# Altium schematic symbol library TiltLib.SchLib: 3 symbols
Pins are listed as number, name and electrical type; pins without a type are passive.

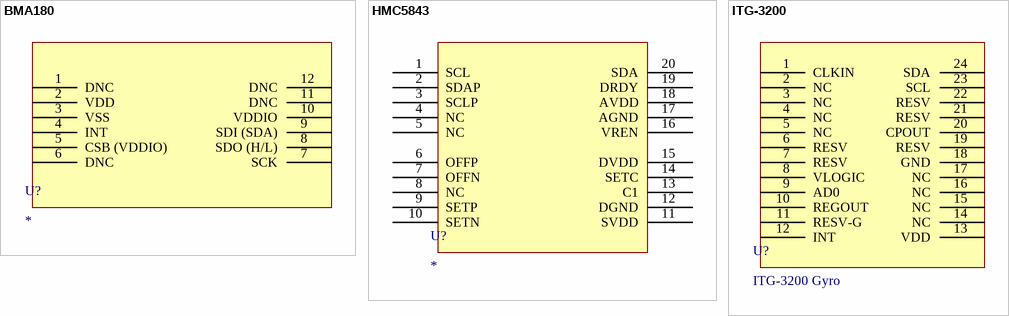
[diagram p0: symbols BMA180 to ITG-3200]

## BMA180
designator U?
footprint LGA - BMA180 (LCC, 12-Pins, Body 3.1x3.1mm (max), Pitch 0.50mm, IPC High Density)
pins: 1 DNC, 2 VDD, 3 VSS, 4 INT, 5 CSB (VDDIO), 6 DNC, 7 SCK, 8 SDO (H/L), 9 SDI (SDA), 10 VDDIO, 11 DNC, 12 DNC

## HMC5843
designator U?
footprint HMC5843 - LPCC 20 Pin
pins: 1 SCL, 2 SDAP, 3 SCLP, 4 NC, 5 NC, 6 OFFP, 7 OFFN, 8 NC, 9 SETP, 10 SETN, 11 SVDD, 12 DGND, 13 C1, 14 SETC, 15 DVDD, 16 VREN, 17 AGND, 18 AVDD, 19 DRDY, 20 SDA

## ITG-3200
designator U?, comment ITG-3200 Gyro
footprint ITG-3200 - QFN 24 Pin (QFN, 24-Leads, Body 4.1x4.1mm (max), Pitch 0.50mm, IPC Low Density)
pins: 1 CLKIN, 2 NC, 3 NC, 4 NC, 5 NC, 6 RESV, 7 RESV, 8 VLOGIC, 9 AD0, 10 REGOUT, 11 RESV-G, 12 INT, 13 VDD, 14 NC, 15 NC, 16 NC, 17 NC, 18 GND, 19 RESV, 20 CPOUT, 21 RESV, 22 RESV, 23 SCL, 24 SDA